# Altium footprint library L-SPE-744227_wurthz.PcbLib: 1 footprints
Each footprint in its own frame and in the unit in brackets; x right, y up, seen from the top. Pads: shape width x height; smd on the part's side, far side on the other; paste and mask are expansions set on the pad; w line width, h text height; cw(c..) or ccw(c..) is an arc to the next point about the centre after c.
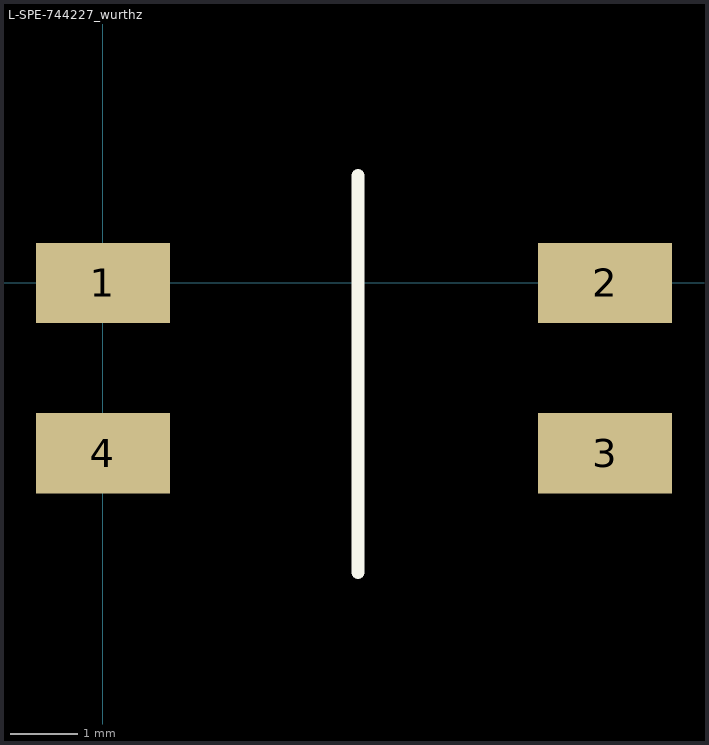
[diagram p0: the footprint, top view; thin cyan lines are the x and y axes]

## L-SPE-744227_wurthz [mm]
pads (4):
  rect 2x1.2 smd: 1(0,0) 2(7.5,0) 3(7.5,-2.54) 4(0,-2.54)
Top Overlay:
  lines w0.2: 3.81,-4.318 3.81,1.6
3D body: height 5, standoff 0, extent -0.841,-4.346 8.359,1.654